# EAGLE library part LMP7702 (library (custom)-new-components)
The library has been designed by Richard Magdycz <https://www.facebook.com/groups/eaglecadsoftUK>
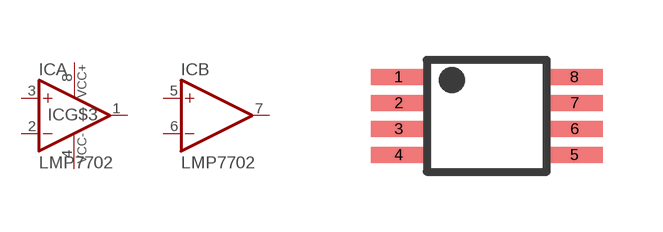
[diagram p2: symbol with the pads of VSSOP8; footprint VSSOP8]

Designator prefix IC; gates A=A B=A G$3=PWR

## LMP7702 (MPN: LMP7702MM/NOPB)  [VSSOP8]
1  A:OUT  out
2  A:IN-  in
3  A:IN+  in
4  G$3:VCC-  pwr
5  B:IN+  in
6  B:IN-  in
7  B:OUT  out
8  G$3:VCC+  pwr

## Footprint VSSOP8 (pad centres in mm)
Plastic Small Outline
smd 1.4 x 0.4: 1 -2.2,0.975; 2 -2.2,0.325; 3 -2.2,-0.325; 4 -2.2,-0.975; 5 2.2,-0.975; 6 2.2,-0.325; 7 2.2,0.325; 8 2.2,0.975